# Altium footprint library IMX6ULL_MINI_V2.2.PcbLib: 44 footprints (part 1 of 3)
Each footprint in its own frame and in the unit in brackets; x right, y up, seen from the top. Pads: shape width x height; smd on the part's side, far side on the other; paste and mask are expansions set on the pad; w line width, h text height; cw(c..) or ccw(c..) is an arc to the next point about the centre after c.
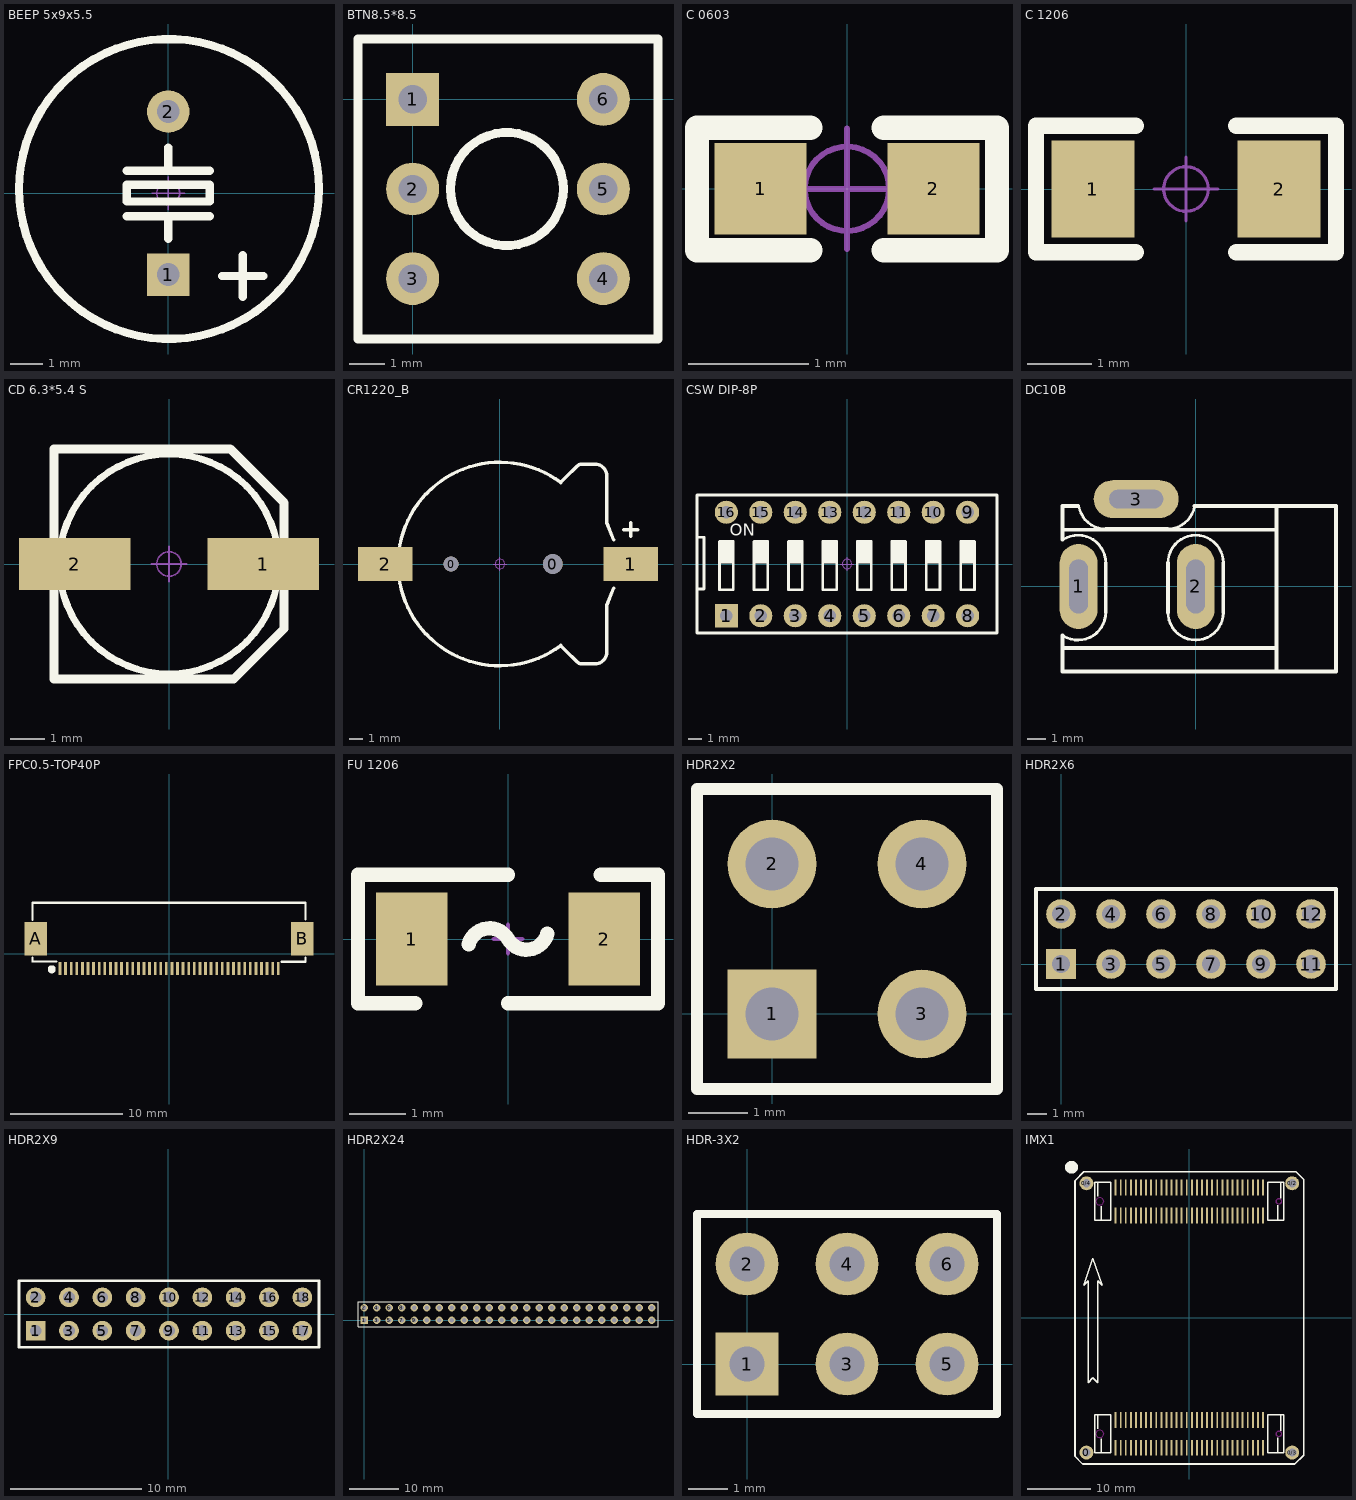
[diagram p0: the footprints below, top view; thin cyan lines are the x and y axes]

## BEEP 5x9x5.5 [mm]
pads (2):
  rect 1.3x1.3 hole 0.7: 1(0,-2.5)
  round 1.3 hole 0.7: 2(0,2.5)
Top Overlay:
  circle w0.254: c0.023,0.127 r4.6
  lines w0.254: -1.27,-0.709 1.27,-0.709 ; -1.27,0.685 1.27,0.685 ; 0,-1.397 0,-0.709 ; 0,0.812 0,1.397 ; 1.651,-2.54 2.921,-2.54 ; 2.286,-3.175 2.286,-1.905 ; -1.27,-0.254 -1.27,0.254 1.27,0.254 1.27,-0.254 -1.27,-0.254
Mechanical 15:
  circle w0.05: c0,0 r0.35
  lines w0.05: -0.5,0 0.5,0 ; 0,-0.5 0,0.5

## BTN8.5*8.5 [mm]
pads (6):
  rect 1.5x1.5 hole 0.8: 1(0,0)
  round 1.5 hole 0.8: 2(0,-2.54) 3(0,-5.08) 4(5.4,-5.08) 5(5.4,-2.54) 6(5.4,0)
Top Overlay:
  circle w0.254: c2.667,-2.54 r1.6
  lines w0.254: -1.55,-6.79 6.95,-6.79 6.95,1.71 -1.55,1.71 -1.55,-6.79

## C 0603 [mil]
pads (2):
  rect 30x30 smd mask+2: 1(-28.25,0) 2(28.25,0)
Top Overlay:
  lines w8: -12,-20.06 -49,-20.06 -49,19.94 -12,19.94 ; 12,-20.06 49,-20.06 49,19.94 12,19.94
Mechanical 15:
  circle w1.97: c0,0 r13.78
  lines w1.97: -19.69,0 19.69,0 ; 0,-19.68 0,19.68

## C 1206 [mil]
pads (2):
  rect 51.18x60 smd: 1(-57.5,0) 2(57.5,0)
Top Overlay:
  lines w10: -31,-39 -92.52,-39 -92.52,39 -31,39 ; 31,-39 92.52,-39 92.52,39 31,39
Mechanical 15:
  circle w1.97: c0,0 r13.78
  lines w1.97: -19.68,0 19.68,0 ; 0,-19.68 0,19.68

## CD 6.3*5.4 S [mm]
pads (2):
  rect 3.2x1.5 smd: 1(2.7,0) 2(-2.7,0)
Top Overlay:
  circle w0.2: c0,0 r3.15
  lines w0.254: -3.3,-3.3 -3.3,3.3 1.75,3.3 3.3,1.75 3.3,-1.85 1.85,-3.3 -3.3,-3.3
Mechanical 15:
  circle w0.05: c0,0 r0.35
  lines w0.05: -0.5,0 0.5,0 ; 0,-0.5 0,0.5

## CR1220_B [mm]
pads (4):
  round 1.1 hole 1.1: 0(-3.6,0)
  round 1.45 hole 1.45: 0(3.9,0)
  rect 4x2.5 smd: 1(9.652,0) 2(-8.458,0)
Top Overlay:
  lines w0.254: 4.5,-6 cw(c0,0) 4.5,6 ; 4.572,-6.096 4.826,-6.35 5.662,-7.186 ccw(c6.096,-6.753) 6.096,-7.366 7.007,-7.366 ccw(c7.007,-6.499) 7.874,-6.499 7.874,-3.048 8.382,-1.778 ; 4.572,6.096 4.826,6.35 5.662,7.186 cw(c6.096,6.753) 6.096,7.366 7.007,7.366 cw(c7.007,6.499) 7.874,6.499 7.874,3.048 8.382,1.778 ; 9.144,2.54 10.16,2.54 ; 9.652,2.032 9.652,3.048
Mechanical 15:
  circle w0.05: c0,0 r0.35
  lines w0.05: -0.5,0 0.5,0 ; 0,-0.5 0,0.5

## CSW DIP-8P [mm]
pads (16):
  rect 1.7x1.7 hole 0.9: 1(-8.89,-3.81)
  round 1.7 hole 0.9: 2(-6.35,-3.81) 3(-3.81,-3.81) 4(-1.27,-3.81) 5(1.27,-3.81) 6(3.81,-3.81) 7(6.35,-3.81) 8(8.89,-3.81) 9(8.89,3.81) 10(6.35,3.81) 11(3.81,3.81) 12(1.27,3.81) 13(-1.27,3.81) 14(-3.81,3.81) 15(-6.35,3.81) 16(-8.89,3.81)
Top Overlay:
  rectangle: 5.842,0.127 6.858,1.651
  rectangle: -9.398,0.127 -8.382,1.651
  rectangle: -6.858,0.127 -5.842,1.651
  rectangle: -4.318,0.127 -3.302,1.651
  rectangle: -1.778,0.127 -0.762,1.651
  rectangle: 0.762,0.127 1.778,1.651
  rectangle: 3.302,0.127 4.318,1.651
  rectangle: 8.382,0.127 9.398,1.651
  lines w0.2: -11.049,-5.08 -11.049,5.08 11.049,5.08 11.049,-5.08 -11.049,-5.08
  lines w0.203: -11.049,-1.841 -10.541,-1.841 -10.541,1.968 -11.049,1.968 ; -9.398,0.127 -8.382,0.127 ; -6.858,0.127 -5.842,0.127 ; -4.318,0.127 -3.302,0.127 ; -1.778,0.127 -0.762,0.127 ; 0.762,0.127 1.778,0.127 ; 3.302,0.127 4.318,0.127 ; 5.842,0.127 6.858,0.127 ; 8.382,0.127 9.398,0.127 ; -9.398,-1.905 -9.398,1.651 -8.382,1.651 -8.382,-1.905 -9.398,-1.905 ; -6.858,-1.905 -6.858,1.651 -5.842,1.651 -5.842,-1.905 -6.858,-1.905 ; -4.318,-1.905 -4.318,1.651 -3.302,1.651 -3.302,-1.905 -4.318,-1.905 ; -1.778,-1.905 -1.778,1.651 -0.762,1.651 -0.762,-1.905 -1.778,-1.905 ; 0.762,-1.905 0.762,1.651 1.778,1.651 1.778,-1.905 0.762,-1.905 ; 3.302,-1.905 3.302,1.651 4.318,1.651 4.318,-1.905 3.302,-1.905 ; 5.842,-1.905 6.858,-1.905 6.858,1.651 5.842,1.651 5.842,-1.905 ; 8.382,-1.905 8.382,1.651 9.398,1.651 9.398,-1.905 8.382,-1.905
  text "ON" at -8.636,1.778 h1.52
Mechanical 15:
  circle w0.05: c0,0 r0.35
  lines w0.05: -0.5,0 0.5,0 ; 0,-0.5 0,0.5

## DC10B [mm]
pads (3):
  oval 2.032x4.572 hole 1 slot 2.9 at 90 deg: 1(-6.3,0) 2(0,0)
  oval 4.572x2.032 hole 1 slot 2.9 at 0 deg: 3(-3.2,4.7)
Top Overlay:
  lines w0.152: -7.111,-2.658 ccw(c-6.323,-1.397) -4.837,-1.397 ; -7.111,2.531 cw(c-6.323,1.27) -4.837,1.27 ; -6.288,4.314 ccw(c-4.824,4.572) -4.824,3.086 ; -1.522,3.086 ccw(c-1.522,4.572) -0.058,4.314 ; -1.486,-1.397 ccw(c0,-1.397) 1.486,-1.397 ; -1.486,1.27 cw(c0,1.27) 1.486,1.27
  lines w0.203: -7.164,-2.642 -7.164,-4.572 4.345,-4.572 4.345,4.318 ; -7.163,2.515 -7.163,4.318 -6.323,4.318 ; -7.163,3.048 4.345,3.048 ; -7.162,-3.302 4.345,-3.302 ; -4.836,-1.397 -4.836,1.27 ; -4.824,3.086 -1.522,3.086 ; -1.486,1.27 -1.486,-1.397 ; -0.058,4.318 4.345,4.318 ; 1.487,-1.397 1.487,1.27 ; 4.218,-4.572 4.726,-4.572 7.544,-4.572 7.544,4.318 4.345,4.318 ; -1.487,-1.397 -1.486,-1.397

## FPC0.5-TOP40P [mm]
pads (42):
  rect 0.25x1.2 smd: 1(-9.737,-1.326) 2(-9.237,-1.326) 3(-8.737,-1.326) 4(-8.237,-1.326) 5(-7.737,-1.326) 6(-7.237,-1.326) 7(-6.737,-1.326) 8(-6.237,-1.326) 9(-5.737,-1.326) 10(-5.237,-1.326) 11(-4.737,-1.326) 12(-4.237,-1.326) 13(-3.737,-1.326) 14(-3.237,-1.326) 15(-2.737,-1.326) 16(-2.237,-1.326) 17(-1.737,-1.326) 18(-1.237,-1.326) 19(-0.737,-1.326) 20(-0.237,-1.326) 21(0.263,-1.326) 22(0.763,-1.326) 23(1.263,-1.326) 24(1.763,-1.326) 25(2.263,-1.326) 26(2.763,-1.326) 27(3.263,-1.326) 28(3.763,-1.326) 29(4.263,-1.326) 30(4.763,-1.326) 31(5.263,-1.326) 32(5.763,-1.326) 33(6.263,-1.326) 34(6.763,-1.326) 35(7.263,-1.326) 36(7.763,-1.326) 37(8.263,-1.326) 38(8.763,-1.326) 39(9.263,-1.326) 40(9.763,-1.326)
  rect 2x3 smd: A(-11.9,1.326) B(11.9,1.326)
Top Overlay:
  circle w0.356: c-10.474,-1.402 r0.178
  lines w0.203: -12.187,-0.361 -12.187,-0.697 ; -12.187,3.017 -12.187,4.541 12.187,4.541 12.187,3.043 ; -12.176,-0.709 -12.187,-0.697 ; -10.042,-0.709 -12.187,-0.697 ; 10.057,-0.717 12.187,-0.717 12.187,-0.361

## FU 1206 [mil]
pads (2):
  rect 50x65 smd: 1(-67.5,0) 2(67.5,0)
Top Overlay:
  lines w10: -90,45 0,45 ; -65,-45 -105,-45 -105,45 -65,45 ; -27.48,-3.62 cw(c-12.99,-7.5) 0,0 ccw(c12.99,7.5) 27.48,3.62 ; 0,-45 90,-45 ; 65,-45 105,-45 105,45 65,45
Mechanical 15:
  lines w3: -10,0 10,0 ; 0,-10 0,10

## HDR2X2 [mm]
pads (4):
  rect 1.5x1.5 hole 0.9: 1(0,0)
  round 1.5 hole 0.9: 2(0,2.54) 3(2.54,0) 4(2.54,2.54)
Top Overlay:
  lines w0.2: -1.27,-1.27 -1.27,3.81 3.81,3.81 3.81,-1.27 -1.27,-1.27

## HDR2X6 [mm]
pads (12):
  rect 1.5x1.5 hole 0.9: 1(0,0)
  round 1.5 hole 0.9: 2(0,2.54) 3(2.54,0) 4(2.54,2.54) 5(5.08,0) 6(5.08,2.54) 7(7.62,0) 8(7.62,2.54) 9(10.16,0) 10(10.16,2.54) 11(12.7,0) 12(12.7,2.54)
Top Overlay:
  lines w0.2: -1.27,-1.27 -1.27,3.81 13.97,3.81 13.97,-1.27 -1.27,-1.27

## HDR2X9 [mm]
pads (18):
  rect 1.5x1.5 hole 0.9: 1(-10.113,-1.247)
  round 1.5 hole 0.9: 2(-10.113,1.293) 3(-7.573,-1.247) 4(-7.573,1.293) 5(-5.033,-1.247) 6(-5.033,1.293) 7(-2.493,-1.247) 8(-2.493,1.293) 9(0.047,-1.247) 10(0.047,1.293) 11(2.587,-1.247) 12(2.587,1.293) 13(5.127,-1.247) 14(5.127,1.293) 15(7.667,-1.247) 16(7.667,1.293) 17(10.207,-1.247) 18(10.207,1.293)
Top Overlay:
  lines w0.2: -11.383,-2.517 -11.383,2.563 11.477,2.563 11.477,-2.517 -11.383,-2.517

## HDR2X24 [mm]
pads (48):
  rect 1.5x1.5 hole 0.9: 1(0,0)
  round 1.5 hole 0.9: 2(0,2.54) 3(2.54,0) 4(2.54,2.54) 5(5.08,0) 6(5.08,2.54) 7(7.62,0) 8(7.62,2.54) 9(10.16,0) 10(10.16,2.54) 11(12.7,0) 12(12.7,2.54) 13(15.24,0) 14(15.24,2.54) 15(17.78,0) 16(17.78,2.54) 17(20.32,0) 18(20.32,2.54) 19(22.86,0) 20(22.86,2.54) 21(25.4,0) 22(25.4,2.54) 23(27.94,0) 24(27.94,2.54) 25(30.48,0) 26(30.48,2.54) 27(33.02,0) 28(33.02,2.54) 29(35.56,0) 30(35.56,2.54) 31(38.1,0) 32(38.1,2.54) 33(40.64,0) 34(40.64,2.54) 35(43.18,0) 36(43.18,2.54) 37(45.72,0) 38(45.72,2.54) 39(48.26,0) 40(48.26,2.54) 41(50.8,0) 42(50.8,2.54) 43(53.34,0) 44(53.34,2.54) 45(55.88,0) 46(55.88,2.54) 47(58.42,0) 48(58.42,2.54)
Top Overlay:
  lines w0.2: -1.27,-1.27 -1.27,3.81 59.69,3.81 59.69,-1.27 -1.27,-1.27

## HDR-3X2 [mm]
pads (6):
  rect 1.6x1.6 hole 0.9: 1(0,0)
  round 1.6 hole 0.9: 2(0,2.54) 3(2.54,0) 4(2.54,2.54) 5(5.08,0) 6(5.08,2.54)
Top Overlay:
  lines w0.2: 1.482,-1.27 6.35,-1.27 ; 6.35,-1.27 6.35,3.81 -1.27,3.81 -1.27,-1.27 6.35,-1.27

## IMX1 [mm]
pads (124):
  round 2.2 hole 1.3: 0(-16.2,-21.2) 0/2(16.2,21.2) 0/3(16.2,-21.2) 0/4(-16.2,21.2)
  rect 0.3x2.5 smd: A1(-11.6,20.55) A2(-10.8,20.55) A3(-10,20.55) A4(-9.2,20.55) A5(-8.4,20.55) A6(-7.6,20.55) A7(-6.8,20.55) A8(-6,20.55) A9(-5.2,20.55) A10(-4.4,20.55) A11(-3.6,20.55) A12(-2.8,20.55) A13(-2,20.55) A14(-1.2,20.55) A15(-0.4,20.55) A16(0.4,20.55) A17(1.2,20.55) A18(2,20.55) A19(2.8,20.55) A20(3.6,20.55) A21(4.4,20.55) A22(5.2,20.55) A23(6,20.55) A24(6.8,20.55) A25(7.6,20.55) A26(8.4,20.55) A27(9.2,20.55) A28(10,20.55) A29(10.8,20.55) A30(11.6,20.55) A31(11.6,16.15) A32(10.8,16.15) A33(10,16.15) A34(9.2,16.15) A35(8.4,16.15) A36(7.6,16.15) A37(6.8,16.15) A38(6,16.15) A39(5.2,16.15) A40(4.4,16.15) A41(3.6,16.15) A42(2.8,16.15) A43(2,16.15) A44(1.2,16.15) A45(0.4,16.15) A46(-0.4,16.15) A47(-1.2,16.15) A48(-2,16.15) A49(-2.8,16.15) A50(-3.6,16.15) A51(-4.4,16.15) A52(-5.2,16.15) A53(-6,16.15) A54(-6.8,16.15) A55(-7.6,16.15) A56(-8.4,16.15) A57(-9.2,16.15) A58(-10,16.15) A59(-10.8,16.15) A60(-11.6,16.15) B1(-11.6,-16.05) B2(-10.8,-16.05) B3(-10,-16.05) B4(-9.2,-16.05) B5(-8.4,-16.05) B6(-7.6,-16.05) B7(-6.8,-16.05) B8(-6,-16.05) B9(-5.2,-16.05) B10(-4.4,-16.05) B11(-3.6,-16.05) B12(-2.8,-16.05) B13(-2,-16.05) B14(-1.2,-16.05) B15(-0.4,-16.05) B16(0.4,-16.05) B17(1.2,-16.05) B18(2,-16.05) B19(2.8,-16.05) B20(3.6,-16.05) B21(4.4,-16.05) B22(5.2,-16.05) B23(6,-16.05) B24(6.8,-16.05) B25(7.6,-16.05) B26(8.4,-16.05) B27(9.2,-16.05) B28(10,-16.05) B29(10.8,-16.05) B30(11.6,-16.05) B31(11.6,-20.45) B32(10.8,-20.45) B33(10,-20.45) B34(9.2,-20.45) B35(8.4,-20.45) B36(7.6,-20.45) B37(6.8,-20.45) B38(6,-20.45) B39(5.2,-20.45) B40(4.4,-20.45) B41(3.6,-20.45) B42(2.8,-20.45) B43(2,-20.45) B44(1.2,-20.45) B45(0.4,-20.45) B46(-0.4,-20.45) B47(-1.2,-20.45) B48(-2,-20.45) B49(-2.8,-20.45) B50(-3.6,-20.45) B51(-4.4,-20.45) B52(-5.2,-20.45) B53(-6,-20.45) B54(-6.8,-20.45) B55(-7.6,-20.45) B56(-8.4,-20.45) B57(-9.2,-20.45) B58(-10,-20.45) B59(-10.8,-20.45) B60(-11.6,-20.45)
Top Overlay:
  circle w1.016: c-18.534,23.725 r0.508
  lines w0.203: -14.4,-17.45 -14.4,-15.25 ; -14.4,19.15 -14.4,21.35 ; -13.9,-21.25 -13.9,-19.05 ; -13.9,15.35 -13.9,17.55 ; 13.9,-21.25 13.9,-18.85 ; 13.9,15.35 13.9,17.75 ; 14.4,-17.75 14.4,-15.25 ; 14.4,18.85 14.4,21.35 ; -16.655,5.107 -15.918,5.843 -15.918,-10.184 -15.181,-9.447 -14.445,-10.184 -14.445,5.843 -13.708,5.107 -15.181,9.374 -16.655,5.107 ; -14.875,-21.25 -12.375,-21.25 -12.375,-15.275 -14.875,-15.25 -14.875,-21.25 ; -14.875,15.35 -14.875,21.35 -12.375,21.35 -12.375,15.35 -14.875,15.35 ; 12.375,-21.25 14.875,-21.25 14.875,-15.25 12.375,-15.25 12.375,-21.25 ; 12.375,15.35 14.875,15.35 14.875,21.35 12.375,21.35 12.375,15.35
  lines w0.254: -18,-21.8 -16.8,-23 16.6,-23 18,-21.6 18,21.8 16.8,23 -16.6,23 -18,21.6 -18,-21.8
Keep-Out Layer:
  drawing of 8 lines, arcs and shapes, not listed